# Altium schematic symbol library SILICON.SchLib: 1 symbol
Pins are listed as number, name and electrical type; pins without a type are passive.

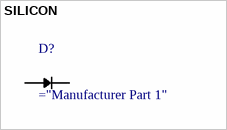
[diagram p0: symbol SILICON]

## SILICON
designator D?
Silicon Diode
pins: A, C